# EAGLE library part TAGCONNECT-CORTEX (library personal)
PIN HEADER
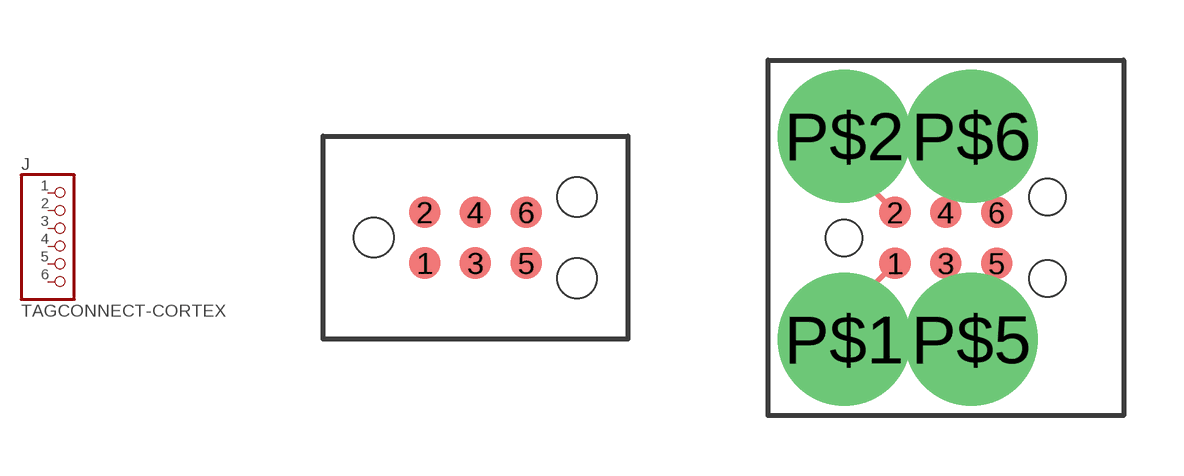
[diagram p15: symbol with the pads of TAGCONNECT-CORTEX-SWD; footprints TAGCONNECT-CORTEX-SWD, TAGCONNECT-CORTEX-SWD-CLIPS]

Designator prefix J

## TAGCONNECT-CORTEX-NOLEGS  [TAGCONNECT-CORTEX-SWD]
1  1  pas
2  2  pas
3  3  pas
4  4  pas
5  5  pas
6  6  pas

## TAGCONNECT-CORTEX-LEGS  [TAGCONNECT-CORTEX-SWD-CLIPS]
1  1  pas
2  2  pas
3  3  pas
4  4  pas
5  5  pas
6  6  pas
P$1  1  pas
P$2  2  pas
P$5  5  pas
P$6  6  pas

## Footprint TAGCONNECT-CORTEX-SWD (pad centres in mm)
smd 0.787 x 0.787: 1 -1.27,-0.635; 2 -1.27,0.635; 3 0,-0.635; 4 0,0.635; 5 1.27,-0.635; 6 1.27,0.635
hole 0.991 at 2.54,1.016
hole 0.991 at 2.54,-1.016
hole 0.991 at -2.54,0

## Footprint TAGCONNECT-CORTEX-SWD-CLIPS (pad centres in mm)
smd 0.787 x 0.787: 1 -1.27,-0.635; 2 -1.27,0.635; 3 0,-0.635; 4 0,0.635; 5 1.27,-0.635; 6 1.27,0.635
drill 2.311 pad 2.667: P$1 -2.54,-2.54; P$2 -2.54,2.54; P$5 0.635,-2.54; P$6 0.635,2.54
hole 0.914 at 2.54,1.016
hole 0.914 at 2.54,-1.016
hole 0.914 at -2.54,0